# EAGLE library part FSS-71034-08 (library tm-HIROSUGI)
FSS-71034-08 HIROSUGI
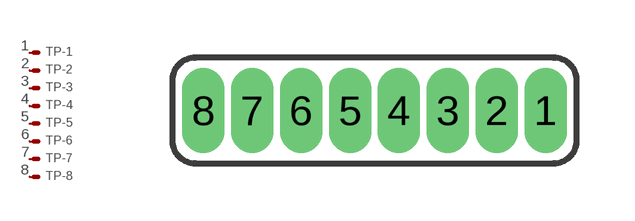
[diagram p1: symbol with the pads of FSS-71034-08; footprint FSS-71034-08]

Designator prefix TP; gates -1=PIN -2=PIN -3=PIN -4=PIN -5=PIN -6=PIN -7=PIN -8=PIN

## FSS-71034-08  [FSS-71034-08]
1  -1:-
2  -2:-
3  -3:-
4  -4:-
5  -5:-
6  -6:-
7  -7:-
8  -8:-

## Footprint FSS-71034-08 (pad centres in mm)
drill 0.6 long: 1 4.445,0; 2 3.175,0; 3 1.905,0; 4 0.635,0; 5 -0.635,0; 6 -1.905,0; 7 -3.175,0; 8 -4.445,0